# EAGLE library part PWR_REG_MP8017 (library !GPLIB_ACTIVE)
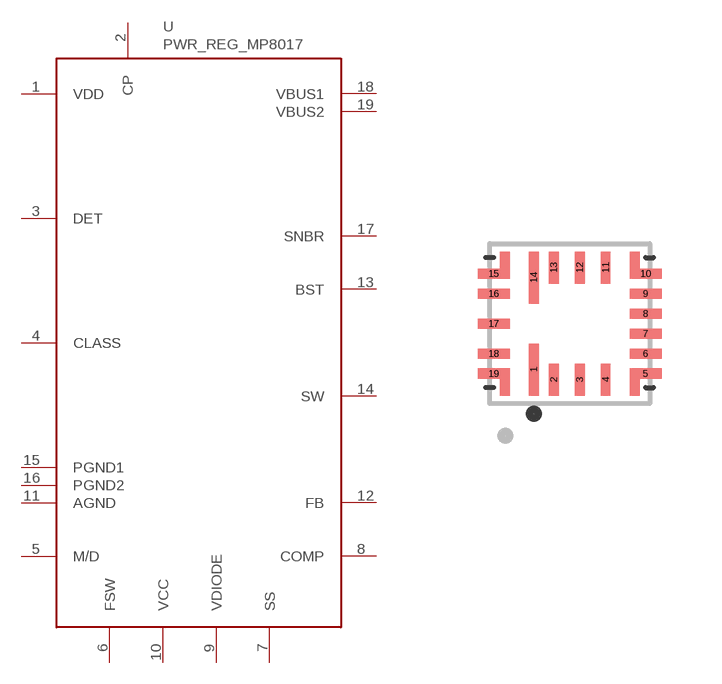
[diagram p26: symbol with the pads of QFN-19(3X4); footprint QFN-19(3X4)]

Designator prefix U

## PWR_REG_MP8017_MP8017GL-Z  [QFN-19(3X4)]
1  VDD  pwr
2  CP  out
3  DET  in
4  CLASS  in
5  M/D  in
6  FSW  in
7  SS  in
8  COMP  in
9  VDIODE  out
10  VCC  pwr
11  AGND  pwr
12  FB  in
13  BST  out
14  SW  out
15  PGND1  pwr
16  PGND2  pwr
17  SNBR  out
18  VBUS1  pwr
19  VBUS2  pwr

## Footprint QFN-19(3X4) (pad centres in mm)
smd 0.25 x 1.3: 1 -0.9,-1.15; 14 -0.9,1.15
smd 0.25 x 0.8: 2 -0.4,-1.4; 3 0.25,-1.4; 4 0.9,-1.4; 11 0.9,1.4; 12 0.25,1.4; 13 -0.4,1.4
smd 0.8 x 0.25: 5 1.9,-1.25; 6 1.9,-0.75; 7 1.9,-0.25; 8 1.9,0.25; 9 1.9,0.75; 10 1.9,1.25; 15 -1.9,1.25; 16 -1.9,0.75; 17 -1.9,0; 18 -1.9,-0.75; 19 -1.9,-1.25